# Altium footprint library PASSIVE_SMD.PCBLIB: 238 footprints (part 13 of 15)
Each footprint in its own frame and in the unit in brackets; x right, y up, seen from the top. Pads: shape width x height; smd on the part's side, far side on the other; paste and mask are expansions set on the pad; w line width, h text height; cw(c..) or ccw(c..) is an arc to the next point about the centre after c.
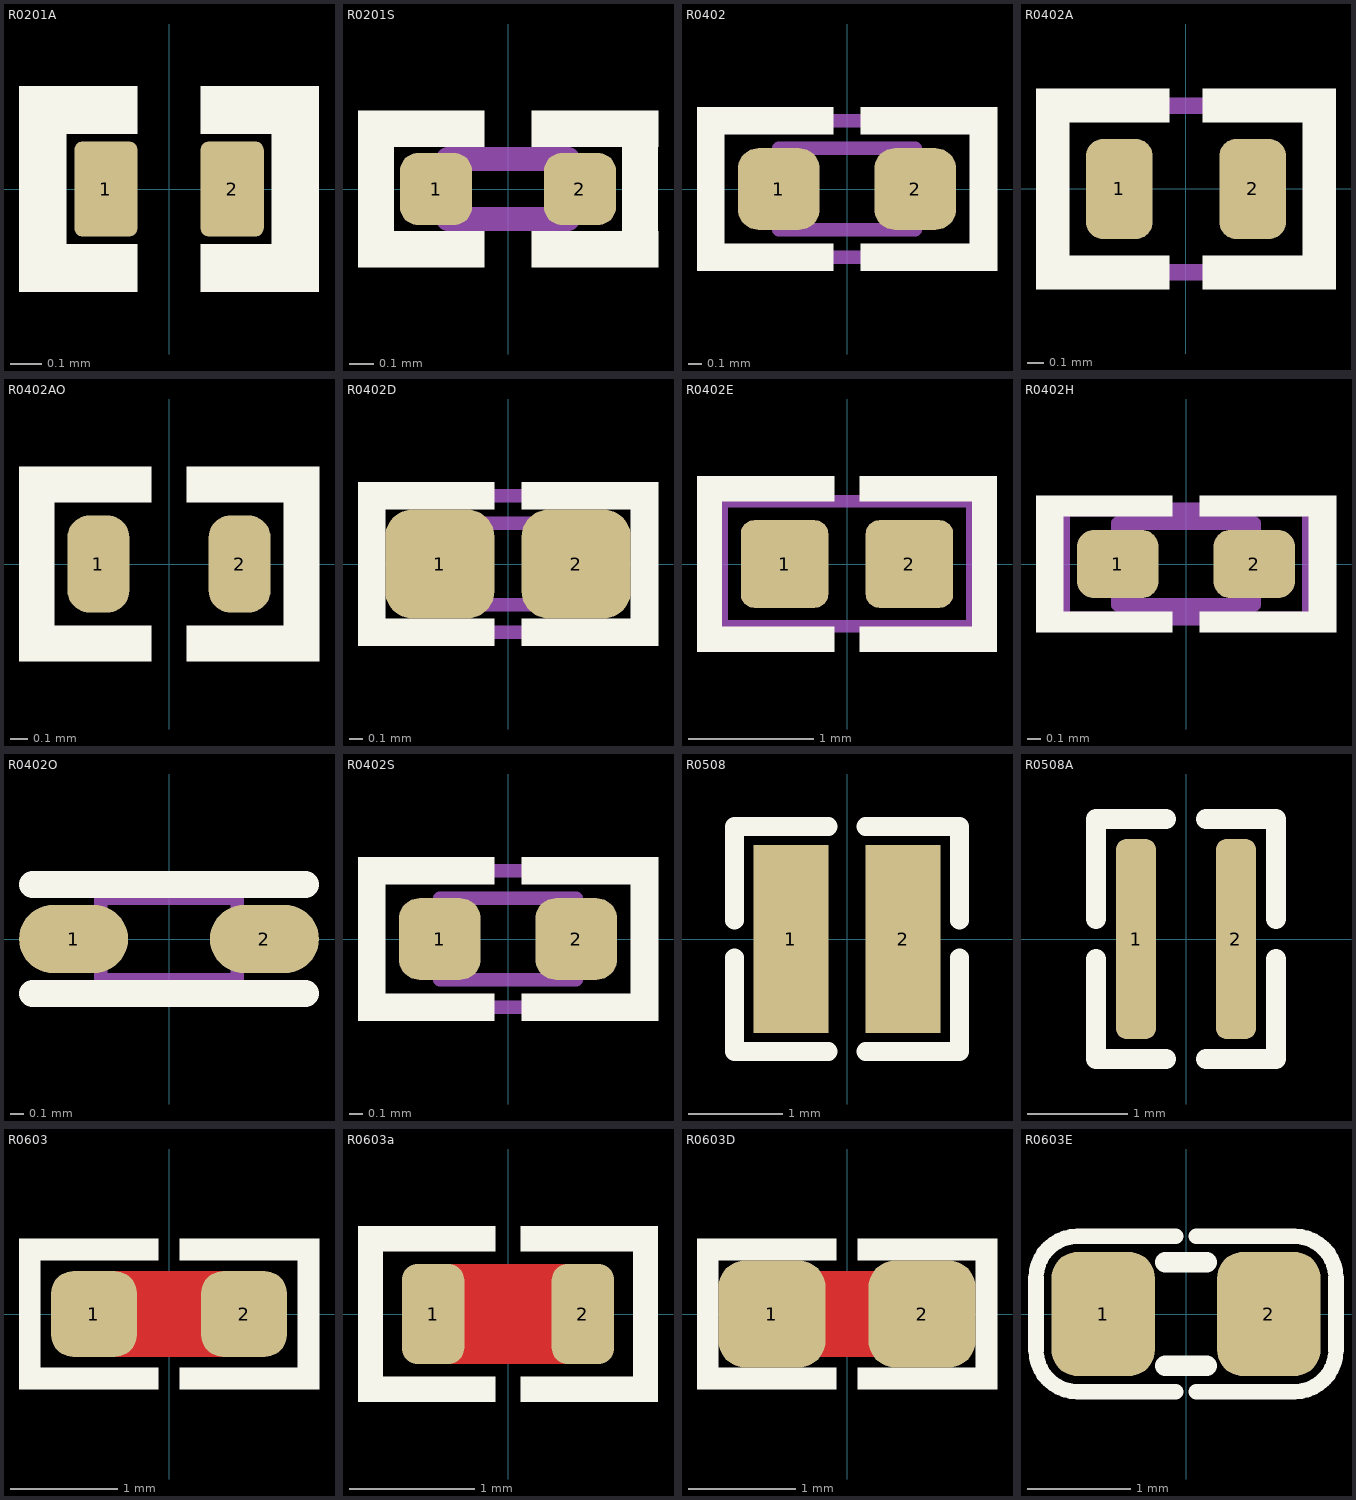
[diagram p12: the footprints below, top view; thin cyan lines are the x and y axes]

## R0201A [mm] "CHIP Resistor, 0.5x0.25mm, for PCBA"
pads (2):
  rrect25% 0.2x0.3 smd mask+0.05: 1(-0.2,0) 2(0.2,0)
Top Overlay:
  region: -0.475,0.175 -0.1,0.175 -0.1,0.325 -0.475,0.325
  region: -0.475,-0.175 -0.1,-0.175 -0.1,-0.325 -0.475,-0.325
  region: 0.475,-0.175 0.1,-0.175 0.1,-0.325 0.475,-0.325
  region: 0.475,0.175 0.1,0.175 0.1,0.325 0.475,0.325
  lines w0.15: -0.4,-0.25 -0.4,0.25 ; 0.4,-0.25 0.4,0.25
3D body: height 0.2, standoff 0, extent -0.3,-0.15 -0.15,0.15
3D body: height 0.2, standoff 0, extent -0.15,-0.15 0.15,0.15
3D body: height 0.2, standoff 0, extent 0.15,-0.15 0.3,0.15

## R0201S [mm] "CHIP Resistor, 0.5x0.25mm, 0201, soldered"
pads (2):
  rrect50% 0.3x0.3 smd mask+0.05: 1(-0.3,0) 2(0.3,0)
Top Overlay:
  region: -0.625,0.175 -0.1,0.175 -0.1,0.325 -0.625,0.325
  region: 0.625,0.175 0.1,0.175 0.1,0.325 0.625,0.325
  region: 0.625,-0.175 0.1,-0.175 0.1,-0.325 0.625,-0.325
  region: -0.625,-0.175 -0.1,-0.175 -0.1,-0.325 -0.625,-0.325
  lines w0.15: -0.55,-0.25 -0.55,0.25 ; 0.55,-0.25 0.55,0.25
Mechanical 13:
  lines w0.1: -0.25,-0.125 0.25,-0.125 0.25,0.125 -0.25,0.125 -0.25,-0.125
3D body "r0201_Res.step": height 0.31, standoff 0, extent -0.44,-0.15 0.44,0.15

## R0402 [mm] "CHIP Resistor, 1.0X0.5mm, 0402"
height 0.4
pads (2):
  rrect50% 0.6x0.6 smd paste-1 mask+0.05: 1(-0.5,0) 2(0.5,0)
Top Overlay:
  region: -0.1,-0.4 -0.1,-0.6 -1.1,-0.6 -1.1,-0.4
  region: -0.1,0.4 -0.1,0.6 -1.1,0.6 -1.1,0.4
  region: -1.1,0.6 -0.9,0.6 -0.9,-0.6 -1.1,-0.6
  region: 1.1,0.6 0.9,0.6 0.9,-0.6 1.1,-0.6
  region: 0.1,0.4 0.1,0.6 1.1,0.6 1.1,0.4
  region: 0.1,-0.4 0.1,-0.6 1.1,-0.6 1.1,-0.4
Top Paste:
  region: -0.65,0.25 -0.4,0.25 -0.25,0 -0.4,-0.25 -0.65,-0.25 -0.67,-0.25 -0.707,-0.235 -0.735,-0.207 -0.75,-0.17 -0.75,-0.15 -0.75,0.151 -0.75,0.171 -0.735,0.207 -0.706,0.235 -0.67,0.25
  region: 0.65,0.25 0.4,0.25 0.25,0 0.4,-0.25 0.65,-0.25 0.67,-0.25 0.707,-0.235 0.735,-0.207 0.75,-0.17 0.75,-0.15 0.75,0.151 0.75,0.171 0.735,0.207 0.706,0.235 0.67,0.25
Mechanical 13:
  lines w0.1: -0.5,-0.3 0.5,-0.3 0.5,0.3 -0.5,0.3 -0.5,-0.3
Mechanical 15:
  lines w0.1: -1,-0.5 1,-0.5 1,0.5 -1,0.5 -1,-0.5
3D body "User Library-RES_1005-0402.step": height 0.41, standoff 0, extent -0.575,-0.275 0.575,0.275

## R0402A [mm] "CHIP Resistor, 1.0X0.5mm, 0402, for PCBA"
height 0.4
pads (2):
  rrect50% 0.4x0.6 smd mask+0.05: 1(-0.4,0) 2(0.4,0)
Top Overlay:
  region: -0.1,-0.4 -0.1,-0.6 -0.9,-0.6 -0.9,-0.4
  region: -0.1,0.4 -0.1,0.6 -0.9,0.6 -0.9,0.4
  region: -0.9,0.6 -0.7,0.6 -0.7,-0.6 -0.9,-0.6
  region: 0.9,0.6 0.7,0.6 0.7,-0.6 0.9,-0.6
  region: 0.1,0.4 0.1,0.6 0.9,0.6 0.9,0.4
  region: 0.1,-0.4 0.1,-0.6 0.9,-0.6 0.9,-0.4
Mechanical 15:
  lines w0.1: -0.8,-0.5 -0.8,0.5 0.8,0.5 0.8,-0.5 -0.8,-0.5
3D body "User Library-RES_1005-0402.step": height 0.41, standoff 0, extent -0.575,-0.275 0.575,0.275

## R0402AO [mm] "CHIP Resistor, 1.0X0.5mm, 0402, for PCBA optimized"
height 0.4
pads (2):
  rrect70% 0.35x0.55 smd mask+0.05: 1(-0.4,0) 2(0.4,0)
Top Overlay:
  region: 0.1,0.35 0.1,0.55 0.85,0.55 0.85,0.35
  region: 0.85,0.55 0.65,0.55 0.65,-0.55 0.85,-0.55
  region: 0.1,-0.35 0.1,-0.55 0.85,-0.55 0.85,-0.35
  region: -0.1,0.35 -0.1,0.55 -0.85,0.55 -0.85,0.35
  region: -0.85,0.55 -0.65,0.55 -0.65,-0.55 -0.85,-0.55
  region: -0.1,-0.35 -0.1,-0.55 -0.85,-0.55 -0.85,-0.35
3D body "User Library-RES_1005-0402.step": height 0.41, standoff 0, extent -0.575,-0.275 0.575,0.275

## R0402D [mm] "CHIP Resistor 1/16WATT, 1.0X0.5mm, 0402, SMD (SolderMask Defined)"
height 0.4
pads (2):
  rrect50% 0.8x0.8 smd paste-2 mask-0.1: 1(-0.5,0) 2(0.5,0)
Top Overlay:
  region: -0.1,-0.4 -0.1,-0.6 -1.1,-0.6 -1.1,-0.4
  region: -0.1,0.4 -0.1,0.6 -1.1,0.6 -1.1,0.4
  region: -1.1,0.6 -0.9,0.6 -0.9,-0.6 -1.1,-0.6
  region: 1.1,0.6 0.9,0.6 0.9,-0.6 1.1,-0.6
  region: 0.1,0.4 0.1,0.6 1.1,0.6 1.1,0.4
  region: 0.1,-0.4 0.1,-0.6 1.1,-0.6 1.1,-0.4
Top Paste:
  region: -0.65,0.25 -0.4,0.25 -0.25,0 -0.4,-0.25 -0.65,-0.25 -0.67,-0.25 -0.707,-0.235 -0.735,-0.207 -0.75,-0.17 -0.75,-0.15 -0.75,0.151 -0.75,0.171 -0.735,0.207 -0.706,0.235 -0.67,0.25
  region: 0.65,0.25 0.4,0.25 0.25,0 0.4,-0.25 0.65,-0.25 0.67,-0.25 0.707,-0.235 0.735,-0.207 0.75,-0.17 0.75,-0.15 0.75,0.151 0.75,0.171 0.735,0.207 0.706,0.235 0.67,0.25
Mechanical 13:
  lines w0.1: -0.5,-0.3 0.5,-0.3 0.5,0.3 -0.5,0.3 -0.5,-0.3
Mechanical 15:
  lines w0.1: -1,-0.5 -1,0.5 1,0.5 1,-0.5 -1,-0.5
3D body "User Library-RES_1005-0402.step": height 0.41, standoff 0, extent -0.575,-0.275 0.575,0.275

## R0402E [mm] "CHIP Resistor 1/16 WATT, 1.0X0.5mm, EXPANDED PAD"
height 0.4
pads (2):
  rrect30% 0.7x0.7 smd paste-2 mask+0.075: 1(-0.5,0) 2(0.5,0)
Top Overlay:
  region: 1.2,0.7 1,0.7 1,-0.7 1.2,-0.7
  region: 0.1,0.5 0.1,0.7 1.2,0.7 1.2,0.5
  region: 0.1,-0.5 0.1,-0.7 1.2,-0.7 1.2,-0.5
  region: -0.1,-0.5 -0.1,-0.7 -1.2,-0.7 -1.2,-0.5
  region: -0.1,0.5 -0.1,0.7 -1.2,0.7 -1.2,0.5
  region: -1.2,0.7 -1,0.7 -1,-0.7 -1.2,-0.7
Top Paste:
  region: -0.4,-0.3 -0.2,0 -0.4,0.3 -0.7,0.3 -0.72,0.3 -0.757,0.285 -0.785,0.257 -0.8,0.22 -0.8,0.2 -0.8,-0.2 -0.8,-0.22 -0.785,-0.257 -0.757,-0.285 -0.72,-0.3 -0.7,-0.3
  region: 0.4,-0.3 0.2,0 0.4,0.3 0.7,0.3 0.72,0.3 0.757,0.285 0.785,0.257 0.8,0.22 0.8,0.2 0.8,-0.2 0.8,-0.22 0.785,-0.257 0.757,-0.285 0.72,-0.3 0.7,-0.3
Mechanical 15:
  lines w0.1: -1,-0.5 1,-0.5 1,0.5 -1,0.5 -1,-0.5
3D body "User Library-RES_1005-0402.step": height 0.41, standoff 0, extent -0.575,-0.275 0.575,0.275

## R0402H [mm] "CHIP Resistor, 1.0X0.5mm, 0402, High Density"
height 0.4
pads (2):
  rrect50% 0.6x0.5 smd paste-0.25 mask+0.05: 1(-0.5,0) 2(0.5,0)
Top Overlay:
  region: -0.1,-0.35 -0.1,-0.5 -1.1,-0.5 -1.1,-0.35
  region: 0.1,-0.35 0.1,-0.5 1.1,-0.5 1.1,-0.35
  region: 0.1,0.35 0.1,0.5 1.1,0.5 1.1,0.35
  region: 1.1,0.5 0.9,0.5 0.9,-0.5 1.1,-0.5
  region: -1.1,0.5 -0.9,0.5 -0.9,-0.5 -1.1,-0.5
  region: -0.1,0.35 -0.1,0.5 -1.1,0.5 -1.1,0.35
Top Paste:
  region: -0.65,0.25 -0.4,0.25 -0.25,0 -0.4,-0.25 -0.65,-0.25 -0.67,-0.25 -0.707,-0.235 -0.735,-0.207 -0.75,-0.17 -0.75,-0.15 -0.75,0.151 -0.75,0.171 -0.735,0.207 -0.706,0.235 -0.67,0.25
  region: 0.65,0.25 0.4,0.25 0.25,0 0.4,-0.25 0.65,-0.25 0.67,-0.25 0.707,-0.235 0.735,-0.207 0.75,-0.17 0.75,-0.15 0.75,0.151 0.75,0.171 0.735,0.207 0.706,0.235 0.67,0.25
Mechanical 13:
  lines w0.1: -0.5,-0.3 -0.5,0.3 0.5,0.3 0.5,-0.3 -0.5,-0.3
Mechanical 15:
  lines w0.1: -0.9,-0.4 -0.9,0.4 0.9,0.4 0.9,-0.4 -0.9,-0.4
3D body "User Library-RES_1005-0402.step": height 0.41, standoff 0, extent -0.575,-0.275 0.575,0.275

## R0402O [mm] "0402 Optimized for place close together"
pads (2):
  oval 0.8x0.5 smd mask+0.05: 1(-0.7,0) 2(0.7,0)
Top Overlay:
  lines w0.2: -1,-0.4 1,-0.4 ; -1,0.4 1,0.4
Mechanical 13:
  lines w0.1: -0.5,-0.3 -0.5,0.3 0.5,0.3 0.5,-0.3 -0.5,-0.3
3D body "User Library-RES_1005-0402.step": height 0.41, standoff 0, extent -0.575,-0.275 0.575,0.275

## R0402S [mm] "CHIP Resistor 1/16 WATT, 1.0X0.5mm, 0402, 1005, soldered"
height 0.4
pads (2):
  rrect50% 0.6x0.6 smd paste-1 mask+0.05: 1(-0.5,0) 2(0.5,0)
Top Overlay:
  region: 0.1,-0.4 0.1,-0.6 1.1,-0.6 1.1,-0.4
  region: 0.1,0.4 0.1,0.6 1.1,0.6 1.1,0.4
  region: 1.1,0.6 0.9,0.6 0.9,-0.6 1.1,-0.6
  region: -1.1,0.6 -0.9,0.6 -0.9,-0.6 -1.1,-0.6
  region: -0.1,0.4 -0.1,0.6 -1.1,0.6 -1.1,0.4
  region: -0.1,-0.4 -0.1,-0.6 -1.1,-0.6 -1.1,-0.4
Top Paste:
  region: 0.65,0.25 0.4,0.25 0.25,0 0.4,-0.25 0.65,-0.25 0.67,-0.25 0.707,-0.235 0.735,-0.207 0.75,-0.17 0.75,-0.15 0.75,0.151 0.75,0.171 0.735,0.207 0.706,0.235 0.67,0.25
  region: -0.65,0.25 -0.4,0.25 -0.25,0 -0.4,-0.25 -0.65,-0.25 -0.67,-0.25 -0.707,-0.235 -0.735,-0.207 -0.75,-0.17 -0.75,-0.15 -0.75,0.151 -0.75,0.171 -0.735,0.207 -0.706,0.235 -0.67,0.25
Mechanical 13:
  lines w0.1: -0.5,-0.3 -0.5,0.3 0.5,0.3 0.5,-0.3 -0.5,-0.3
Mechanical 15:
  lines w0.1: -1,-0.5 1,-0.5 1,0.5 -1,0.5 -1,-0.5
3D body "r0402_Res1.step": height 0.51, standoff 0, extent -0.73,-0.25 0.73,0.25

## R0508 [mm] "CHIP Resistor, 1.3X2.0mm, 0508"
pads (2):
  rect 0.8x2 smd: 1(-0.6,0) 2(0.6,0)
Top Overlay:
  lines w0.2: -1.2,-0.2 -1.2,-1.2 -0.2,-1.2 ; -1.2,0.2 -1.2,1.2 -0.2,1.2 ; 0.2,-1.2 1.2,-1.2 1.2,-0.2 ; 0.2,1.2 1.2,1.2 1.2,0.2
3D body "User Library-RESC1220X07N.STEP": height 0.7, standoff 0, extent -0.675,-1.05 0.675,1.05

## R0508A [mm] "CHIP Resistor, 1.3X2.0mm, 0508"
pads (2):
  rrect50% 0.4x2 smd: 1(-0.5,0) 2(0.5,0)
Top Overlay:
  lines w0.2: -0.9,-0.2 -0.9,-1.2 -0.2,-1.2 ; -0.9,0.2 -0.9,1.2 -0.2,1.2 ; 0.2,-1.2 0.9,-1.2 0.9,-0.2 ; 0.2,1.2 0.9,1.2 0.9,0.2
3D body "User Library-RESC1220X07N.STEP": height 0.7, standoff 0, extent -0.675,-1.05 0.675,1.05

## R0603 [mm] "CHIP Resistor 1/10 WATT, 1.6x0.8mm, 0603, OPTIMIZED"
height 0.6
pads (2):
  rrect50% 0.8x0.8 smd paste-5 mask+0.075: 1(-0.7,0) 2(0.7,0)
Top Layer:
  pour cut-out: -0.5,0.4 0.5,0.4 0.5,-0.4 -0.5,-0.4
Top Overlay:
  region: 0.1,-0.5 0.1,-0.7 1.4,-0.7 1.4,-0.5
  region: 0.1,0.5 0.1,0.7 1.4,0.7 1.4,0.5
  region: 1.4,0.7 1.2,0.7 1.2,-0.7 1.4,-0.7
  region: -1.4,0.7 -1.2,0.7 -1.2,-0.7 -1.4,-0.7
  region: -0.1,0.5 -0.1,0.7 -1.4,0.7 -1.4,0.5
  region: -0.1,-0.5 -0.1,-0.7 -1.4,-0.7 -1.4,-0.5
Top Paste:
  region: 0.7,0.35 0.63,0.35 0.502,0.297 0.403,0.198 0.35,0.07 0.35,0 0.35,-0.07 0.403,-0.198 0.502,-0.297 0.63,-0.35 0.7,-0.35 0.9,-0.35 0.93,-0.35 0.985,-0.327 1.027,-0.285 1.05,-0.23 1.05,-0.2 1.05,0.2 1.05,0.23 1.027,0.285 0.985,0.327 0.93,0.35 0.9,0.35
  region: -0.7,0.35 -0.63,0.35 -0.502,0.297 -0.403,0.198 -0.35,0.07 -0.35,0 -0.35,-0.07 -0.403,-0.198 -0.502,-0.297 -0.63,-0.35 -0.7,-0.35 -0.9,-0.35 -0.93,-0.35 -0.985,-0.327 -1.027,-0.285 -1.05,-0.23 -1.05,-0.2 -1.05,0.2 -1.05,0.23 -1.027,0.285 -0.985,0.327 -0.93,0.35 -0.9,0.35
3D body "User Library-RES_1609-0603.step": height 0.56, standoff 0, extent -0.85,-0.4 0.85,0.4

## R0603a [mm] "CHIP Resistor 1/10 WATT, 1.6x0.8mm, 0603,  for PCBA"
height 0.6
pads (2):
  rrect50% 0.5x0.8 smd mask+0.075: 1(-0.6,0) 2(0.6,0)
Top Layer:
  pour cut-out: -0.5,0.4 0.5,0.4 0.5,-0.4 -0.5,-0.4
Top Overlay:
  region: -1.2,0.7 -1,0.7 -1,-0.7 -1.2,-0.7
  region: -0.1,0.5 -0.1,0.7 -1.2,0.7 -1.2,0.5
  region: -0.1,-0.5 -0.1,-0.7 -1.2,-0.7 -1.2,-0.5
  region: 0.1,-0.5 0.1,-0.7 1.2,-0.7 1.2,-0.5
  region: 0.1,0.5 0.1,0.7 1.2,0.7 1.2,0.5
  region: 1.2,0.7 1,0.7 1,-0.7 1.2,-0.7
3D body "User Library-RES_1609-0603.step": height 0.56, standoff 0, extent -0.85,-0.4 0.85,0.4

## R0603D [mm] "CHIP Resistor 1/10 WATT, 1.6x0.8mm, 0603, SMD (SolderMask Defined)"
height 0.6
pads (2):
  rrect50% 1x1 smd paste-0.5 mask-0.1: 1(-0.7,0) 2(0.7,0)
Top Layer:
  pour cut-out: -0.5,0.4 0.5,0.4 0.5,-0.4 -0.5,-0.4
Top Overlay:
  region: -0.1,-0.5 -0.1,-0.7 -1.4,-0.7 -1.4,-0.5
  region: -0.1,0.5 -0.1,0.7 -1.4,0.7 -1.4,0.5
  region: -1.4,0.7 -1.2,0.7 -1.2,-0.7 -1.4,-0.7
  region: 1.4,0.7 1.2,0.7 1.2,-0.7 1.4,-0.7
  region: 0.1,0.5 0.1,0.7 1.4,0.7 1.4,0.5
  region: 0.1,-0.5 0.1,-0.7 1.4,-0.7 1.4,-0.5
Top Paste:
  region: 0.4,-0.05 0.4,0.05 0.4,0.12 0.453,0.248 0.552,0.347 0.68,0.4 0.75,0.4 0.85,0.4 0.9,0.4 0.992,0.362 1.062,0.292 1.1,0.2 1.1,0.15 1.1,-0.15 1.1,-0.2 1.062,-0.292 0.992,-0.362 0.9,-0.4 0.85,-0.4 0.75,-0.4 0.68,-0.4 0.552,-0.347 0.453,-0.248 0.4,-0.12
  region: -0.4,-0.05 -0.4,0.05 -0.4,0.12 -0.453,0.248 -0.552,0.347 -0.68,0.4 -0.75,0.4 -0.85,0.4 -0.9,0.4 -0.992,0.362 -1.062,0.292 -1.1,0.2 -1.1,0.15 -1.1,-0.15 -1.1,-0.2 -1.062,-0.292 -0.992,-0.362 -0.9,-0.4 -0.85,-0.4 -0.75,-0.4 -0.68,-0.4 -0.552,-0.347 -0.453,-0.248 -0.4,-0.12
3D body "User Library-RES_1609-0603.step": height 0.56, standoff 0, extent -0.85,-0.4 0.85,0.4

## R0603E [mm] "CHIP Resistor 1/10 WATT, 1.6x0.8mm, 0603, EXPANDED PAD"
height 0.6
pads (2):
  rrect50% 1x1.2 smd paste-0.5 mask+0.05: 1(-0.8,0) 2(0.8,0)
Top Overlay:
  lines w0.15: -0.1,-0.75 -1.05,-0.75 cw(c-1.05,-0.35) -1.45,-0.35 -1.45,0.35 cw(c-1.05,0.35) -1.05,0.75 -0.1,0.75 ; 0.1,-0.75 1.05,-0.75 ccw(c1.05,-0.35) 1.45,-0.35 1.45,0.35 ccw(c1.05,0.35) 1.05,0.75 0.1,0.75
  lines w0.2: -0.2,-0.5 0.2,-0.5 ; -0.2,0.5 0.2,0.5
Top Paste:
  region: 0.35,-0.1 0.35,0.1 0.35,0.16 0.396,0.27 0.48,0.354 0.59,0.4 0.65,0.4 1.1,0.4 1.13,0.4 1.185,0.377 1.227,0.335 1.25,0.28 1.25,0.25 1.25,-0.25 1.25,-0.28 1.227,-0.335 1.185,-0.377 1.13,-0.4 1.1,-0.4 0.65,-0.4 0.59,-0.4 0.48,-0.354 0.396,-0.27 0.35,-0.16
  region: -0.35,-0.1 -0.35,0.1 -0.35,0.16 -0.396,0.27 -0.48,0.354 -0.59,0.4 -0.65,0.4 -1.1,0.4 -1.13,0.4 -1.185,0.377 -1.227,0.335 -1.25,0.28 -1.25,0.25 -1.25,-0.25 -1.25,-0.28 -1.227,-0.335 -1.185,-0.377 -1.13,-0.4 -1.1,-0.4 -0.65,-0.4 -0.59,-0.4 -0.48,-0.354 -0.396,-0.27 -0.35,-0.16
3D body "User Library-RES_1609-0603.step": height 0.56, standoff 0, extent -0.85,-0.4 0.85,0.4